# Altium footprint library PcbLib1.PcbLib: 38 footprints (part 1 of 3)
Each footprint in its own frame and in the unit in brackets; x right, y up, seen from the top. Pads: shape width x height; smd on the part's side, far side on the other; paste and mask are expansions set on the pad; w line width, h text height; cw(c..) or ccw(c..) is an arc to the next point about the centre after c.
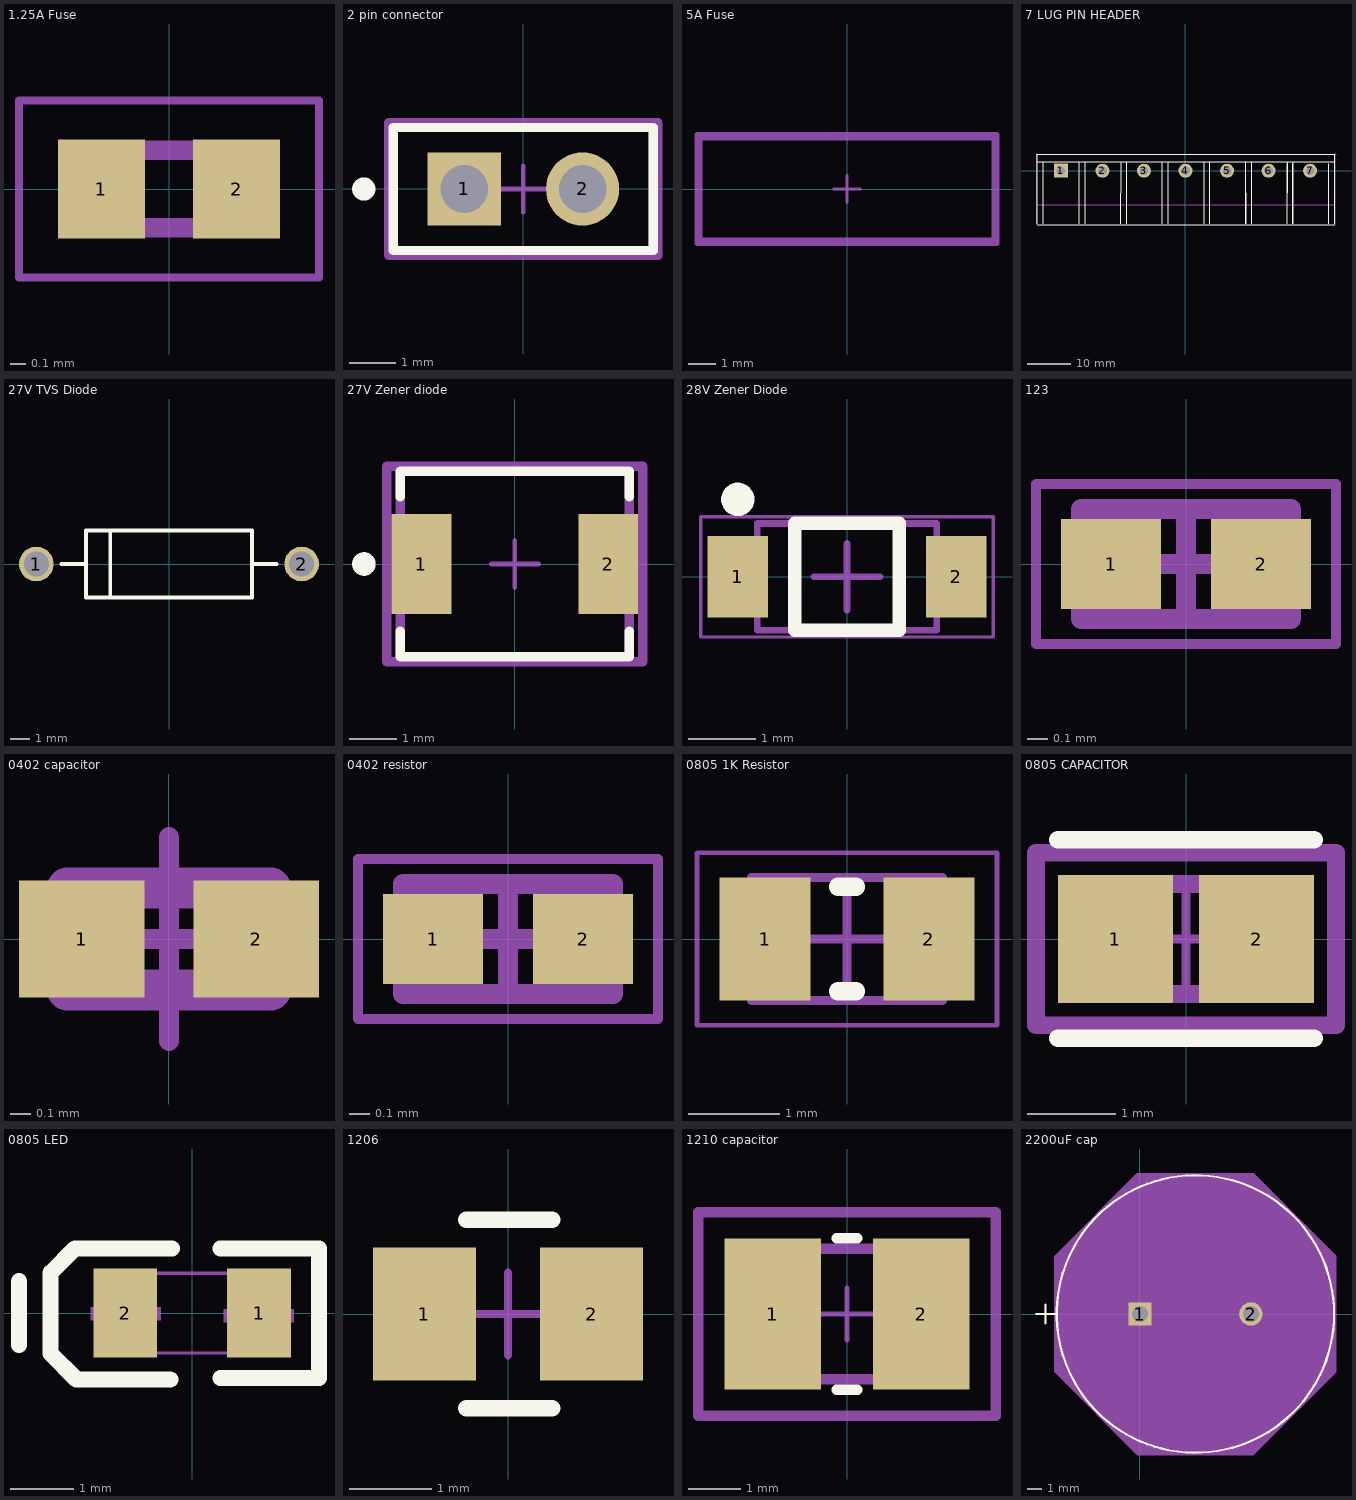
[diagram p0: the footprints below, top view; thin cyan lines are the x and y axes]

## 1.25A Fuse [mm]
pads (2):
  rect 0.56x0.64 smd: 1(-0.435,0) 2(0.435,0)
Mechanical 13:
  lines w0.127: -0.5,-0.25 0.5,-0.25 0.5,0.25 -0.5,0.25 -0.5,-0.25
Mechanical 15:
  lines w0.05: -0.965,-0.569 0.965,-0.569 0.965,0.569 -0.965,0.569 -0.965,-0.569
3D body "step_temp.STEP": height 0.49, standoff 0, extent -0.5,-0.25 0.5,0.25

## 2 pin connector [mm]
pads (2):
  rect 1.57x1.57 hole 1.02 paste-2539.97 mask+0: 1(-1.27,0)
  round 1.57 hole 1.02 paste-2539.97 mask+0: 2(1.27,0)
Top Overlay:
  circle w0.25: c-3.425,0 r0.125
  lines w0.2: -2.79,-1.32 2.79,-1.32 2.79,1.32 -2.79,1.32 -2.79,-1.32
Top 3D Body:
  lines w0.2: -2.79,-1.32 2.79,-1.32 2.79,1.32 -2.79,1.32 -2.79,-1.32
Top Courtyard:
  lines w0.2: -2.89,-1.42 2.89,-1.42 2.89,1.42 -2.89,1.42 -2.89,-1.42
Top Assembly:
  lines w0.2: -2.89,-1.42 2.89,-1.42 2.89,1.42 -2.89,1.42 -2.89,-1.42
Top Component Center:
  lines w0.1: -0.5,0 0.5,0 ; 0,-0.5 0,0.5
3D body "Conn_Harwin_M20-9990246_eec.STEP": height 0.25, standoff 0, extent -2.89,-1.443 2.89,1.397

## 5A Fuse [mm]
Top 3D Body:
  lines w0.2: -5.45,-1.9 5.45,-1.9 5.45,1.9 -5.45,1.9 -5.45,-1.9
Top Courtyard:
  lines w0.2: -5.55,-2 5.55,-2 5.55,2 -5.55,2 -5.55,-2
Top Assembly:
  lines w0.2: -5.55,-2 5.55,-2 5.55,2 -5.55,2 -5.55,-2
Top Component Center:
  lines w0.1: -0.5,0 0.5,0 ; 0,-0.5 0,0.5
3D body "Fuse_Littelfuse_Inc_0297005_WXNV_eec.STEP": height 0.25, standoff 0, extent -5.423,-1.905 5.677,2.095

## 7 LUG PIN HEADER [mm]
pads (7):
  rect 3.21x3.2 hole 2: 1(-28.5,0)
  round 3.2 hole 2: 2(-19,0) 3(-9.5,0) 4(0,0) 5(9.5,0) 6(19,0) 7(28.5,0)
Top Overlay:
  lines w0.254: -33.873,-12.305 34.127,-12.305 ; -33.873,-12.178 -33.873,3.822 34.127,3.822 ; -33.873,2.032 34.107,2.032 34.107,-12.154 ; -32.573,-12.178 -32.573,2.032 ; -24.273,-12.178 -24.273,1.905 ; -22.973,-12.178 -22.973,1.905 ; -14.773,-12.178 -14.732,1.905 ; -13.473,-12.178 -13.473,1.905 ; -5.273,-12.178 -5.273,2.032 ; -3.973,-12.178 -3.973,1.905 ; 4.327,-12.178 4.327,2.032 ; 5.532,-12.154 5.532,2.032 ; 13.716,1.905 13.731,-12.154 ; 13.756,-12.154 13.756,1.646 ; 14.986,2.032 15.031,-12.154 ; 23.256,-12.154 23.256,1.646 ; 23.281,-12.154 23.368,1.905 ; 24.511,2.032 24.582,-12.154 ; 24.556,-12.154 24.556,1.646 ; 32.781,-12.154 32.781,1.646 ; 32.806,-12.154 32.806,1.646 ; 34.081,-12.154 34.163,3.81
Mechanical 15:
  drawing of 12 lines, arcs and shapes, not listed
3D body "WJ46S-B Terminal Block 7-Pin v9.step": height 16.5, standoff -5.4, extent -33.846,-12.19 34.354,3.81

## 27V TVS Diode [mm] "AXIAL, 2-Leads, Diameter 3.49mm"
height 3.49
pads (2):
  round 1.8 hole 1.3: 1(-6.887,0) 2(6.887,0)
Top Overlay:
  lines w0.2: -5.587,0 -4.317,0 ; -3.047,-1.745 -3.047,1.745 ; 4.317,0 5.587,0 ; -4.317,-1.745 -4.317,1.745 4.317,1.745 4.317,-1.745 -4.317,-1.745
3D body "ST P6KE hor 10_16.stp": height 3.76, standoff -2.25, extent -5.645,-1.742 5.391,1.778

## 27V Zener diode [mm]
pads (2):
  rect 1.27x2.11 smd paste+0 mask+0: 1(-1.98,0) 2(1.98,0)
Top Overlay:
  circle w0.25: c-3.2,0 r0.125
  lines w0.2: -2.425,-1.43 -2.425,-1.97 2.425,-1.97 2.425,-1.43 ; -2.425,1.43 -2.425,1.97 2.425,1.97 2.425,1.43
Top 3D Body:
  lines w0.2: -2.425,-1.97 -2.425,1.97 2.425,1.97 2.425,-1.97 -2.425,-1.97
Top Courtyard:
  lines w0.2: -2.715,-2.07 -2.715,2.07 2.715,2.07 2.715,-2.07 -2.715,-2.07
Top Assembly:
  lines w0.2: -2.715,-2.07 -2.715,2.07 2.715,2.07 2.715,-2.07 -2.715,-2.07
  text ".Designator" at 0,0.188 h1
Top Component Center:
  lines w0.1: -0.5,0 0.5,0 ; 0,-0.5 0,0.5
3D body "Diode_MCC_SMBJ5361B-TP_eec.STEP": height 0.25, standoff 0, extent -2.715,-2.07 2.715,2.07

## 28V Zener Diode [mm] "SOD, 2-Leads, Body 2.69x1.6mm"
height 1.35
pads (2):
  rect 0.91x1.22 smd: 1(-1.635,0) 2(1.635,0)
Top Overlay:
  circle w0.25: c-1.635,1.16 r0.125
  lines w0.2: -0.78,-0.8 0.78,-0.8 0.78,0.8 -0.78,0.8 -0.78,-0.8
Mechanical 13:
  lines w0.1: -1.345,-0.8 1.345,-0.8 1.345,0.8 -1.345,0.8 -1.345,-0.8
Mechanical 15:
  lines w0.05: -2.19,-0.9 2.19,-0.9 2.19,0.9 -2.19,0.9 -2.19,-0.9
  lines w0.1: -0.5,0 0.5,0 ; 0,-0.5 0,0.5
3D body: height 1.35, standoff 0, extent -1.345,-0.8 1.345,0.8

## 123 [mm] "Chip Resistor, 2-Leads, Body 1.00x0.50mm, IPC High Density"
height 0.4
pads (2):
  rect 0.5x0.45 smd: 1(-0.375,0) 2(0.375,0)
Mechanical 13:
  lines w0.1: -0.525,-0.275 -0.525,0.275 0.525,0.275 0.525,-0.275 -0.525,-0.275
Mechanical 15:
  lines w0.05: -0.75,-0.4 -0.75,0.4 0.75,0.4 0.75,-0.4 -0.75,-0.4
  lines w0.1: -0.275,0 0.275,0 ; 0,-0.275 0,0.275
3D body: height 0.4, standoff 0, extent -0.275,-0.275 0.275,0.275
3D body: height 0.4, standoff 0, extent -0.525,-0.275 -0.275,0.275
3D body: height 0.4, standoff 0, extent 0.275,-0.275 0.525,0.275

## 0402 capacitor [mm]
pads (2):
  rect 0.615x0.572 smd paste+0 mask+0: 1(-0.429,0) 2(0.429,0)
Top 3D Body:
  lines w0.2: -0.5,-0.25 0.5,-0.25 0.5,0.25 -0.5,0.25 -0.5,-0.25
Top Component Center:
  lines w0.1: -0.5,0 0.5,0 ; 0,-0.5 0,0.5
3D body "Cap_Murata_GCM155R71H271KA37D_eec.STEP": height 0.25, standoff 0, extent -0.886,-0.436 0.886,0.436

## 0402 resistor [mm] "Chip Resistor, 2-Leads, Body 1.00x0.50mm, IPC High Density"
height 0.4
pads (2):
  rect 0.5x0.45 smd: 1(-0.375,0) 2(0.375,0)
Mechanical 13:
  lines w0.1: -0.525,-0.275 -0.525,0.275 0.525,0.275 0.525,-0.275 -0.525,-0.275
Mechanical 15:
  lines w0.05: -0.75,-0.4 -0.75,0.4 0.75,0.4 0.75,-0.4 -0.75,-0.4
  lines w0.1: -0.275,0 0.275,0 ; 0,-0.275 0,0.275
3D body: height 0.4, standoff 0, extent -0.275,-0.275 0.275,0.275
3D body: height 0.4, standoff 0, extent -0.525,-0.275 -0.275,0.275
3D body: height 0.4, standoff 0, extent 0.275,-0.275 0.525,0.275

## 0805 1K Resistor [mm] "Chip Resistor, 2-Leads, Body 2.1x1.35mm, IPC Medium Density"
height 0.6
pads (2):
  rect 1x1.35 smd: 1(-0.9,0) 2(0.9,0)
Top Overlay:
  lines w0.2: -0.1,-0.575 0.1,-0.575 ; -0.1,0.575 0.1,0.575
Mechanical 13:
  lines w0.1: -1.05,-0.675 -1.05,0.675 1.05,0.675 1.05,-0.675 -1.05,-0.675
Mechanical 15:
  lines w0.05: -1.65,-0.95 -1.65,0.95 1.65,0.95 1.65,-0.95 -1.65,-0.95
  lines w0.1: -0.5,0 0.5,0 ; 0,-0.5 0,0.5
3D body "RESC2012X06N.step": height 0.6, standoff 0, extent -1.05,-0.675 1.05,0.675

## 0805 CAPACITOR [mm]
pads (2):
  rect 1.305x1.456 smd paste+0 mask+0: 1(-0.801,0) 2(0.801,0)
Top Overlay:
  lines w0.2: -1.453,-1.128 1.453,-1.128 ; -1.453,1.128 1.453,1.128
Top 3D Body:
  lines w0.2: -1,-0.625 1,-0.625 1,0.625 -1,0.625 -1,-0.625
Top Courtyard:
  lines w0.2: -1.703,-0.978 1.703,-0.978 1.703,0.978 -1.703,0.978 -1.703,-0.978
Top Assembly:
  lines w0.2: -1.703,-0.978 1.703,-0.978 1.703,0.978 -1.703,0.978 -1.703,-0.978
Top Component Center:
  lines w0.1: -0.5,0 0.5,0 ; 0,-0.5 0,0.5
3D body "Cap_Yageo_CC0805KKX7R7BB105_eec.STEP": height 0.25, standoff 0, extent -1.703,-0.978 1.703,0.978

## 0805 LED [mm]
pads (2):
  rect 1x1.4 smd: 1(1.05,0) 2(-1.05,0)
Top Overlay:
  lines w0.254: -2.721,-0.5 -2.721,0.5 ; -0.344,-1.043 -1.817,-1.043 -2.224,-0.636 -2.224,0.634 -1.843,1.015 -0.319,1.015 ; 0.443,-1.017 1.993,-1.017 1.993,1.015 0.443,1.015
Bottom Designator:
  region: -0.494,-0.109 -1.594,-0.109 -1.594,0.091 -0.494,0.091
  region: 0.494,0.06 1.594,0.06 1.594,-0.14 0.494,-0.14
  region: 0.941,-0.556 0.941,0.544 1.141,0.544 1.141,-0.556
Mechanical 15:
  region: 1.06,0.625 1.06,0.6 1.025,0.565 0.975,0.565 0.94,0.6 0.94,0.625 0.94,0.65 0.975,0.685 1.025,0.685 1.06,0.65 1.06,0.625
  region: -0.6,-0.625 -1,-0.625 -1,0.625 -0.6,0.625
  region: 1,-0.625 0.6,-0.625 0.6,0.625 1,0.625
  lines w0.051: -1,-0.625 -1,0.625 1,0.625 1,-0.625 -1,-0.625
3D body "LED_SML-LXT0805IW-TR_LUM.step": height 0.89, standoff 0, extent -1.054,-0.698 1.054,0.698

## 1206 [mm]
pads (2):
  rect 1.25x1.612 smd paste+0 mask+0: 1(-1.016,0) 2(1.016,0)
Top Overlay:
  lines w0.2: -0.508,-1.143 0.538,-1.143 ; -0.508,1.143 0.538,1.143
Top Component Center:
  lines w0.1: -0.5,0 0.5,0 ; 0,-0.5 0,0.5

## 1210 capacitor [mm]
pads (2):
  rect 1.853x2.904 smd paste+0 mask+0: 1(-1.425,0) 2(1.425,0)
Top Overlay:
  lines w0.2: -0.199,-1.452 0.199,-1.452 ; -0.199,1.452 0.199,1.452
Top 3D Body:
  lines w0.2: -1.6,-1.25 -1.6,1.25 1.6,1.25 1.6,-1.25 -1.6,-1.25
Top Courtyard:
  lines w0.2: -2.852,-1.952 -2.852,1.952 2.852,1.952 2.852,-1.952 -2.852,-1.952
Top Assembly:
  lines w0.2: -2.852,-1.952 -2.852,1.952 2.852,1.952 2.852,-1.952 -2.852,-1.952
Top Component Center:
  lines w0.1: -0.5,0 0.5,0 ; 0,-0.5 0,0.5
3D body "Cap_Samsung_Electro-Mechanics_America_Inc_CL32C472JBFNNNE_eec.STEP": height 0.25, standoff 0, extent -2.852,-1.952 2.852,1.952

## 2200uF cap [mil]
pads (2):
  rect 62x62 hole 42 paste-99999 mask+0: 1(0,0)
  round 62 hole 42 paste-99999 mask+0: 2(295.28,0)
Top Overlay:
  circle w6: c147.64,0 r369.17
  lines w6: -276.54,0 -226.54,0 ; -251.54,-25 -251.54,25
  text ".Designator" at 10.14,-25 h50
Mechanical 13:
  circle w1: c147.64,0 r364.17
  lines w1: -276.54,0 -226.54,0 ; -251.54,-25 -251.54,25
  text ".Designator" at 10.14,-25 h50
Mechanical 15:
  region: -226.54,154.07 -6.43,374.17 301.71,374.17 521.81,154.07 521.81,-154.07 301.71,-374.17 -6.43,-374.17 -226.54,-154.07
  lines w1: -226.54,-154.07 -226.54,154.07 -6.43,374.17 301.71,374.17 521.81,154.07 521.81,-154.07 301.71,-374.17 -6.43,-374.17 -226.54,-154.07
3D body "CAP_ESE228M050AN2AA_KEM.step": height 1496.69, standoff -195.98, extent -216.54,-363.97 512.43,363.97